# Altium schematic symbol library 1761681-1.SchLib: 1 symbol
Pins are listed as number, name and electrical type; pins without a type are passive.

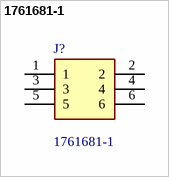
[diagram p0: symbol 1761681-1]

## 1761681-1
designator J?
Body Features: Primary Product Color Black | Connector Profile Low | Daisy Chain With | Configuration Features: PCB Mount Orientation Vertical | Number of Positions 6 | Number of Rows 2 | Contact Features: Contact Mating Area Plating Material Thickness 15 MICIN | Contact Type Pin | PCB Contact Termination Area Plating Material Tin | Contact Base Material Phosphor Bronze | PCB Contact Termination Area Plating Material Thickness 100 MICIN | Contact Current Rating (Max) 1 AMP | Contact Underplating Material Ni; Manufacturer_Name: TE Connectivity; Geometry.Height: 9.22mm; Mouser Part Number: 571-1761681-1; Mouser Price/Stock: https://www.mouser.co.uk/ProductDetail/TE-Connectivity/1761681-1?qs=BqFpTYCQ3dLAeZ2wzdz7aw%3D%3D; Manufacturer_Part_Number: 1761681-1; Datasheet Link: https://www.te.com/commerce/DocumentDelivery/DDEController?Action=showdoc&DocId=Customer+Drawing%7F1761681%7FA1%7Fpdf%7FEnglish%7FENG_CD_1761681_A1.pdf%7F1761681-1
footprint SHDR6W67P254_2X3_1524X916X922P
pins: 1, 2, 3, 4, 5, 6